# Altium footprint library Oscillators.PcbLib: 1 footprints
Each footprint in its own frame and in the unit in brackets; x right, y up, seen from the top. Pads: shape width x height; smd on the part's side, far side on the other; paste and mask are expansions set on the pad; w line width, h text height; cw(c..) or ccw(c..) is an arc to the next point about the centre after c.
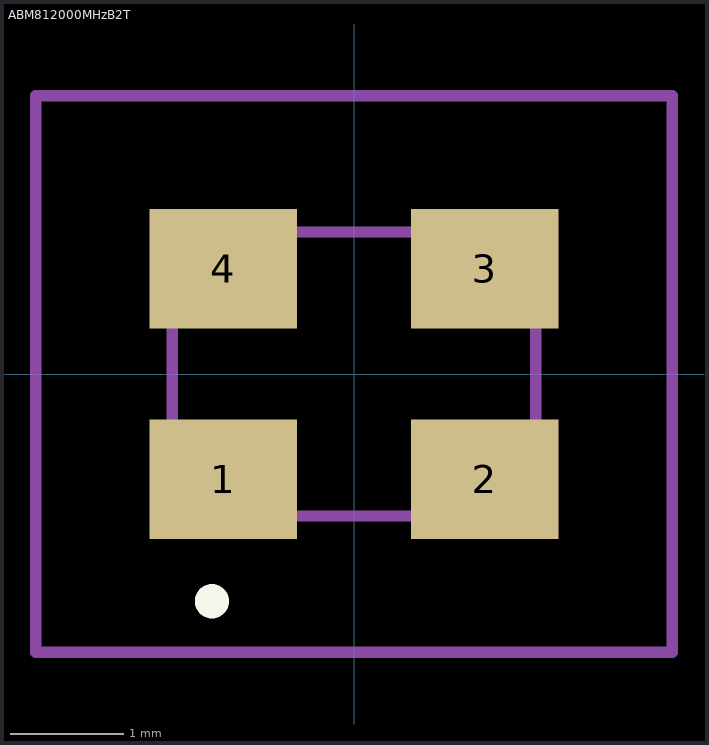
[diagram p0: the footprint, top view; thin cyan lines are the x and y axes]

## ABM812000MHzB2T [mm]
pads (4):
  rect 1.3x1.05 smd: 1(-1.15,-0.925) 2(1.15,-0.925) 3(1.15,0.925) 4(-1.15,0.925)
Top Overlay:
  lines w0.2: -1.3,-2 ccw(c-1.25,-2) -1.2,-2 ; -1.3,-2 cw(c-1.25,-2) -1.2,-2 ; -1.3,-2 ccw(c-1.25,-2) -1.2,-2
Mechanical 13:
  lines w0.1: -1.6,-1.25 -1.6,1.25 1.6,1.25 1.6,-1.25 -1.6,-1.25
Mechanical 15:
  lines w0.1: -2.8,-2.45 -2.8,2.45 2.8,2.45 2.8,-2.45 -2.8,-2.45
3D body "ABM8-12.000MHz-12-B1U-T.stp": height 0.9, standoff 0, extent -1.695,-1.345 1.695,1.345